# Altium footprint library Keebs.PcbLib: 219 footprints (part 7 of 14)
Each footprint in its own frame and in the unit in brackets; x right, y up, seen from the top. Pads: shape width x height; smd on the part's side, far side on the other; paste and mask are expansions set on the pad; w line width, h text height; cw(c..) or ccw(c..) is an arc to the next point about the centre after c.
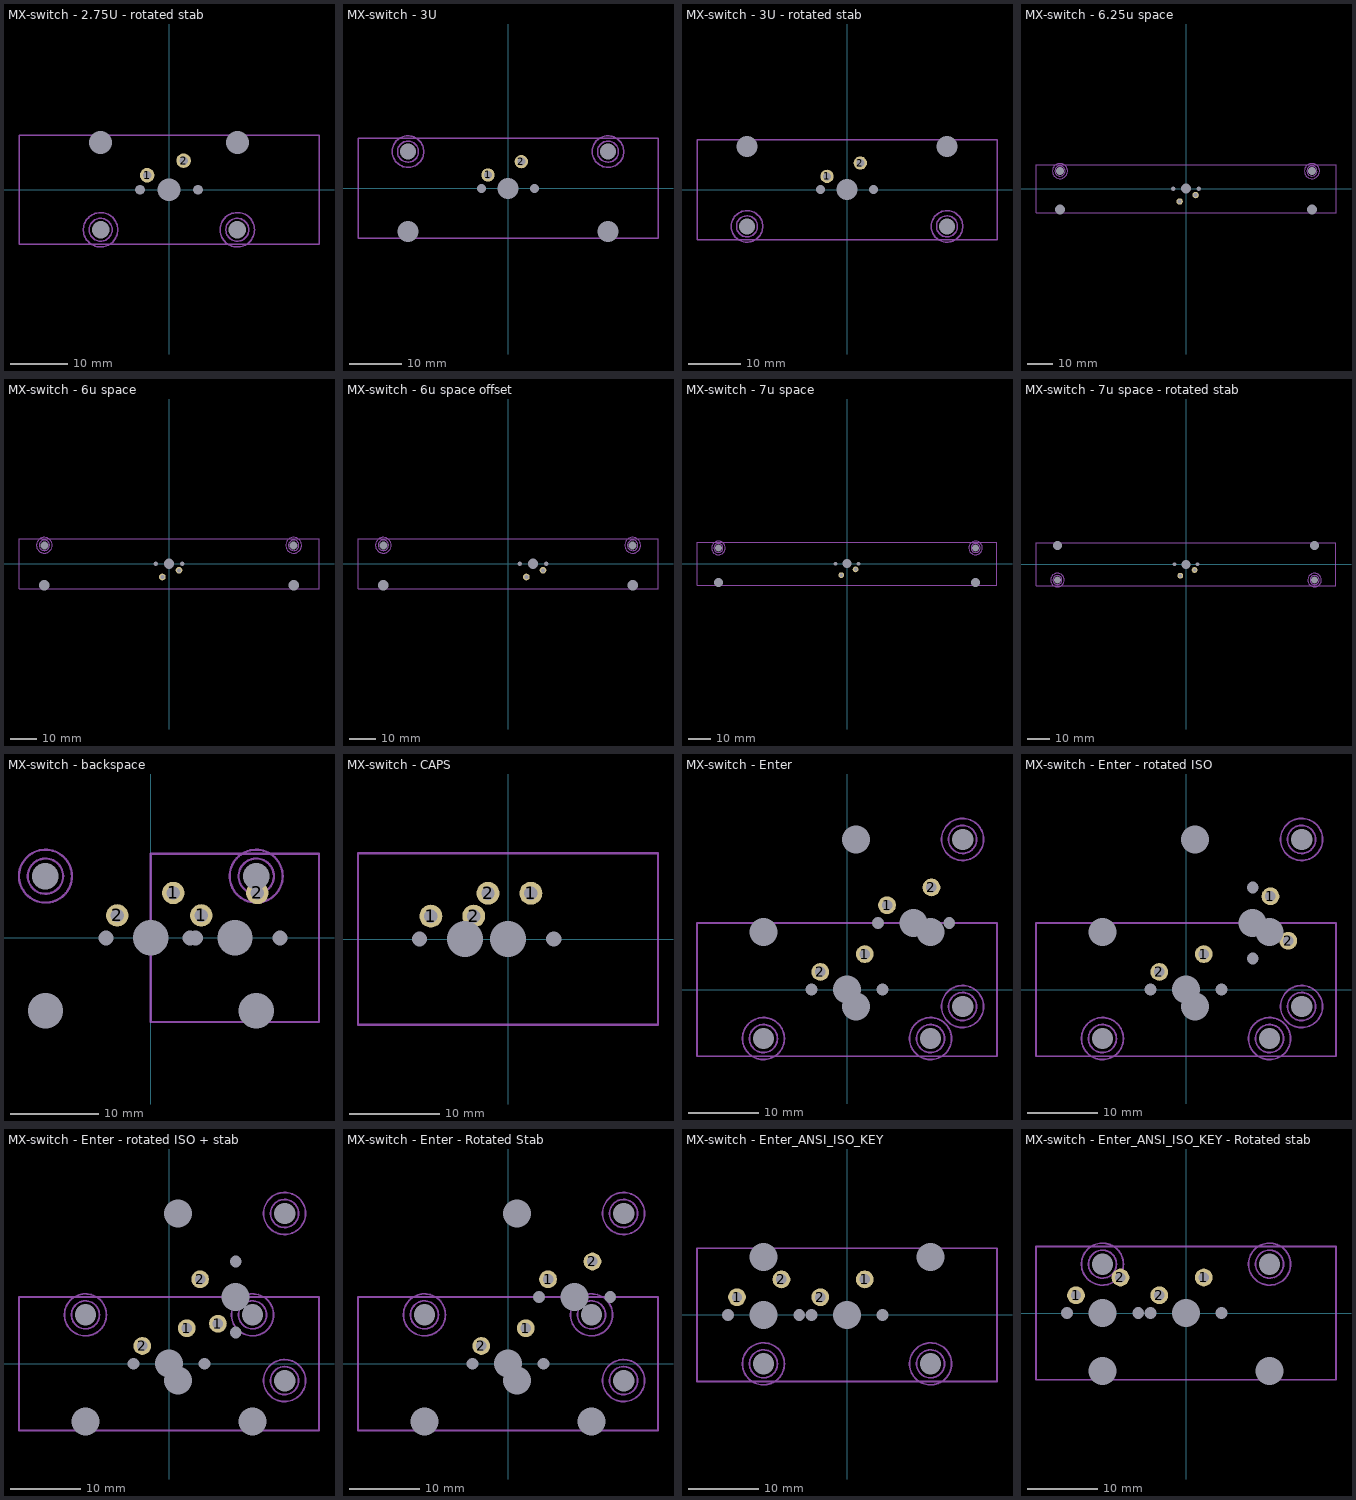
[diagram p6: the footprints below, top view; thin cyan lines are the x and y axes]

## MX-switch - 2.75U - rotated stab [mm]
pads (10):
  round 2.54 hole 1.5 mask-0.5: 1(-3.81,2.54) 2(2.54,5.08)
  round 1.524 hole 3.048 unplated: ""(-11.938,-6.985) ""(11.938,-6.985)
  round 1.524 hole 4 unplated: ""(-11.938,8.255) ""(11.938,8.255)
  round 1 hole 1.7 unplated: ""(-5.08,0) ""(5.08,0)
  round 1 on Mech13: ""(0,0)
  round 1 hole 4 unplated: ""(0,0)
Mechanical 13:
  lines w0.254: -26.194,-9.525 -26.194,9.525 26.194,9.525 26.194,-9.525 -26.194,-9.525
  text ".Designator" at -3.825,-3.375 h0.7
Mechanical 15:
  circle w0.254: c-11.938,-6.985 r2
  circle w0.254: c-11.938,-6.985 r3
  circle w0.254: c11.938,-6.985 r2
  circle w0.254: c11.938,-6.985 r3

## MX-switch - 3U [mm]
pads (10):
  round 2.54 hole 1.5 mask-0.5: 1(-3.81,2.54) 2(2.54,5.08)
  round 1.524 hole 4 unplated: ""(-19.05,-8.255) ""(19.05,-8.255)
  round 1.524 hole 3.048 unplated: ""(-19.05,6.985) ""(19.05,6.985)
  round 1 hole 1.7 unplated: ""(-5.08,0) ""(5.08,0)
  round 1 on Mech13: ""(0,0)
  round 1 hole 4 unplated: ""(0,0)
Mechanical 13:
  lines w0.254: -28.575,-9.525 28.575,-9.525 28.575,9.525 -28.575,9.525 -28.575,-9.525
  text ".Designator" at -3.825,-3.375 h0.7
Mechanical 15:
  circle w0.254: c-19.05,6.985 r3
  circle w0.254: c-19.05,6.985 r2
  circle w0.254: c19.05,6.985 r3
  circle w0.254: c19.05,6.985 r2

## MX-switch - 3U - rotated stab [mm]
pads (10):
  round 2.54 hole 1.5 mask-0.5: 1(-3.81,2.54) 2(2.54,5.08)
  round 1.524 hole 3.048 unplated: ""(-19.05,-6.985) ""(19.05,-6.985)
  round 1.524 hole 4 unplated: ""(-19.05,8.255) ""(19.05,8.255)
  round 1 hole 1.7 unplated: ""(-5.08,0) ""(5.08,0)
  round 1 on Mech13: ""(0,0)
  round 1 hole 4 unplated: ""(0,0)
Mechanical 13:
  lines w0.254: -28.575,-9.525 -28.575,9.525 28.575,9.525 28.575,-9.525 -28.575,-9.525
  text ".Designator" at -3.825,-3.375 h0.7
Mechanical 15:
  circle w0.254: c-19.05,-6.985 r2
  circle w0.254: c-19.05,-6.985 r3
  circle w0.254: c19.05,-6.985 r2
  circle w0.254: c19.05,-6.985 r3

## MX-switch - 6.25u space [mm]
pads (10):
  round 2.54 hole 1.5 mask-0.5: 1(3.81,-2.54) 2(-2.54,-5.08)
  round 1.524 hole 4 unplated: ""(-50,-8.255) ""(50,-8.255)
  round 1.524 hole 3.048 unplated: ""(-50,6.985) ""(50,6.985)
  round 1 hole 1.7 unplated: ""(-5.08,0) ""(5.08,0)
  round 1 hole 4 unplated: ""(0,0)
  round 1 on Mech13: ""(0,0)
Mechanical 13:
  lines w0.254: -59.531,-9.525 59.531,-9.525 59.531,9.525 -59.531,9.525 -59.531,-9.525
  text ".Designator" at -3.575,-3.7 h0.7
Mechanical 15:
  circle w0.254: c-50,6.985 r2
  circle w0.254: c-50,6.985 r3
  circle w0.254: c50,6.985 r2
  circle w0.254: c50,6.985 r3

## MX-switch - 6u space [mm]
pads (10):
  round 2.54 hole 1.499 mask-0.5: 1(3.81,-2.54) 2(-2.54,-5.08)
  round 1.524 hole 4 unplated: ""(-47.5,-8.255) ""(47.5,-8.255)
  round 1.524 hole 3.048 unplated: ""(-47.5,6.985) ""(47.5,6.985)
  round 1 hole 1.7 unplated: ""(-5.08,0) ""(5.08,0)
  round 1 hole 4 unplated: ""(0,0)
  round 1 on Mech13: ""(0,0)
Mechanical 13:
  lines w0.254: -57.15,-9.525 57.15,-9.525 57.15,9.525 -57.15,9.525 -57.15,-9.525
  text ".Designator" at -3.575,-3.7 h0.7
Mechanical 15:
  circle w0.254: c47.5,6.985 r3
  circle w0.254: c47.5,6.985 r2
  circle w0.254: c-47.5,6.985 r3
  circle w0.254: c-47.5,6.985 r2

## MX-switch - 6u space offset [mm]
pads (10):
  round 2.54 hole 1.5 mask-0.5: 1(13.335,-2.54) 2(6.985,-5.08)
  round 1.524 hole 4 unplated: ""(-47.5,-8.255) ""(47.5,-8.255)
  round 1.524 hole 3.048 unplated: ""(-47.5,6.985) ""(47.5,6.985)
  round 1 hole 1.7 unplated: ""(4.445,0) ""(14.605,0)
  round 1 hole 4 unplated: ""(9.525,0)
  round 1 on Mech13: ""(9.525,0)
Mechanical 13:
  lines w0.254: -57.15,-9.525 -57.15,9.525 57.15,9.525 57.15,-9.525 -57.15,-9.525
  text ".Designator" at -3.575,-3.7 h0.7
Mechanical 15:
  circle w0.254: c-47.5,6.985 r2
  circle w0.254: c-47.5,6.985 r3
  circle w0.254: c47.5,6.985 r2
  circle w0.254: c47.5,6.985 r3

## MX-switch - 7u space [mm]
pads (10):
  round 2.54 hole 1.5 mask-0.5: 1(3.81,-2.54) 2(-2.54,-5.08)
  round 1.524 hole 4 unplated: ""(-57.15,-8.255) ""(57.15,-8.255)
  round 1.524 hole 3.048 unplated: ""(-57.15,6.985) ""(57.15,6.985)
  round 1 hole 1.7 unplated: ""(-5.08,0) ""(5.08,0)
  round 1 hole 4 unplated: ""(0,0)
  round 1 on Mech13: ""(0,0)
Mechanical 13:
  lines w0.254: -66.675,-9.525 -66.675,9.525 66.675,9.525 66.675,-9.525 -66.675,-9.525
  text ".Designator" at -3.575,-3.7 h0.7
Mechanical 15:
  circle w0.254: c57.15,6.985 r3
  circle w0.254: c57.15,6.985 r2
  circle w0.254: c-57.15,6.985 r3
  circle w0.254: c-57.15,6.985 r2

## MX-switch - 7u space - rotated stab [mm]
pads (10):
  round 2.54 hole 1.5 mask-0.5: 1(3.81,-2.54) 2(-2.54,-5.08)
  round 1.524 hole 3.048 unplated: ""(-57.15,-6.985) ""(57.15,-6.985)
  round 1.524 hole 4 unplated: ""(-57.15,8.255) ""(57.15,8.255)
  round 1 hole 1.7 unplated: ""(-5.08,0) ""(5.08,0)
  round 1 hole 4 unplated: ""(0,0)
  round 1 on Mech13: ""(0,0)
Mechanical 13:
  lines w0.254: -66.675,-9.525 66.675,-9.525 66.675,9.525 -66.675,9.525 -66.675,-9.525
  text ".Designator" at -3.575,-3.7 h0.7
Mechanical 15:
  circle w0.254: c-57.15,-6.985 r2
  circle w0.254: c-57.15,-6.985 r3
  circle w0.254: c57.15,-6.985 r2
  circle w0.254: c57.15,-6.985 r3

## MX-switch - backspace [mm]
pads (16):
  round 2.54 hole 1.5 mask-0.5: 1(2.54,5.08) 1(5.715,2.54) 2(-3.81,2.54) 2(12.065,5.08)
  round 1.524 hole 4 unplated: ""(-11.938,-8.255) ""(11.938,-8.255)
  round 1.524 hole 3 unplated: ""(-11.938,6.985) ""(11.938,6.985)
  round 1 hole 1.7 unplated: ""(-5.08,0) ""(4.445,0) ""(5.08,0) ""(14.605,0)
  round 1 hole 4 unplated: ""(0,0) ""(9.525,0)
  round 1 on Mech13: ""(0,0) ""(9.525,0)
Mechanical 13:
  lines w0.254: 0,-9.525 0,9.525 19.05,9.525 19.05,-9.525 0,-9.525
  text ".Designator" at 6.65,3.75 h0.7
Mechanical 15:
  circle w0.254: c-11.938,6.985 r2
  circle w0.254: c-11.938,6.985 r3
  circle w0.254: c11.938,6.985 r2
  circle w0.254: c11.938,6.985 r3

## MX-switch - CAPS [mm]
pads (10):
  round 2.54 hole 1.5 mask-0.5: 1(-8.572,2.54) 1(2.54,5.08) 2(-3.81,2.54) 2(-2.222,5.08)
  round 1 hole 1.7 unplated: ""(-9.842,0) ""(5.08,0)
  round 1 on Mech13: ""(-4.763,0) ""(0,0)
  round 1 hole 4 unplated: ""(-4.763,0) ""(0,0)
Mechanical 13:
  lines w0.254: -16.669,-9.525 16.669,-9.525 ; -16.669,-9.525 16.669,-9.525 ; -16.669,-9.525 -16.669,9.525 16.669,9.525 16.669,-9.525
  text ".Designator" at -7.85,-7.5 h0.7

## MX-switch - Enter [mm]
pads (20):
  round 2.54 hole 1.5 mask-0.5: 1(2.54,5.08) 1(5.72,12.07) 2(-3.81,2.54) 2(12.07,14.61)
  round 1.524 hole 3.048 unplated: ""(-11.938,-6.985) ""(11.938,-6.985) ""(16.515,-2.408) ""(16.515,21.468)
  round 1.524 hole 4 unplated: ""(-11.938,8.255) ""(1.275,-2.408) ""(1.275,21.468) ""(11.938,8.255)
  round 1 hole 1.7 unplated: ""(-5.08,0) ""(4.45,9.53) ""(5.08,0) ""(14.61,9.53)
  round 1 hole 4 unplated: ""(0,0) ""(9.53,9.53)
  round 1 on Mech13: ""(0,0) ""(9.53,9.53)
Mechanical 13:
  lines w0.254: -21.431,-9.525 21.431,-9.525 21.431,9.525 -21.431,9.525 -21.431,-9.525
  text ".Designator" at 7.85,1.8 h0.7
Mechanical 15:
  circle w0.254: c-11.938,-6.985 r2
  circle w0.254: c-11.938,-6.985 r3
  circle w0.254: c11.938,-6.985 r2
  circle w0.254: c11.938,-6.985 r3
  circle w0.254: c16.515,-2.408 r2
  circle w0.254: c16.515,-2.408 r3
  circle w0.254: c16.515,21.468 r2
  circle w0.254: c16.515,21.468 r3

## MX-switch - Enter - rotated ISO [mm]
pads (20):
  round 2.54 hole 1.5 mask-0.5: 1(2.54,5.08) 1(12.07,13.34) 2(-3.81,2.54) 2(14.61,6.99)
  round 1.524 hole 3.048 unplated: ""(-11.938,-6.985) ""(11.938,-6.985) ""(16.515,-2.408) ""(16.515,21.468)
  round 1.524 hole 4 unplated: ""(-11.938,8.255) ""(1.275,-2.408) ""(1.275,21.468) ""(11.938,8.255)
  round 1 hole 1.7 unplated: ""(-5.08,0) ""(5.08,0) ""(9.53,4.45) ""(9.53,14.61)
  round 1 hole 4 unplated: ""(0,0) ""(9.53,9.53)
  round 1 on Mech13: ""(0,0) ""(9.53,9.53)
Mechanical 13:
  lines w0.254: -21.431,-9.525 21.431,-9.525 21.431,9.525 -21.431,9.525 -21.431,-9.525
  text ".Designator" at 7.85,1.8 h0.7
Mechanical 15:
  circle w0.254: c-11.938,-6.985 r2
  circle w0.254: c-11.938,-6.985 r3
  circle w0.254: c11.938,-6.985 r2
  circle w0.254: c11.938,-6.985 r3
  circle w0.254: c16.515,-2.408 r2
  circle w0.254: c16.515,-2.408 r3
  circle w0.254: c16.515,21.468 r2
  circle w0.254: c16.515,21.468 r3

## MX-switch - Enter - rotated ISO + stab [mm]
pads (20):
  round 2.54 hole 1.5 mask-0.5: 1(2.54,5.08) 1(6.99,5.72) 2(-3.81,2.54) 2(4.45,12.07)
  round 1.524 hole 4 unplated: ""(-11.938,-8.255) ""(1.275,-2.408) ""(1.275,21.468) ""(11.938,-8.255)
  round 1.524 hole 3.048 unplated: ""(-11.938,6.985) ""(11.938,6.985) ""(16.515,-2.408) ""(16.515,21.468)
  round 1 hole 1.7 unplated: ""(-5.08,0) ""(5.08,0) ""(9.53,4.45) ""(9.53,14.61)
  round 1 hole 4 unplated: ""(0,0) ""(9.53,9.53)
  round 1 on Mech13: ""(0,0) ""(9.53,9.53)
Mechanical 13:
  lines w0.254: -21.431,-9.525 21.431,-9.525 21.431,9.525 -21.431,9.525 -21.431,-9.525
  text ".Designator" at 7.85,1.8 h0.7
Mechanical 15:
  circle w0.254: c11.938,6.985 r2
  circle w0.254: c11.938,6.985 r3
  circle w0.254: c-11.938,6.985 r2
  circle w0.254: c-11.938,6.985 r3
  circle w0.254: c16.515,-2.408 r2
  circle w0.254: c16.515,-2.408 r3
  circle w0.254: c16.515,21.468 r2
  circle w0.254: c16.515,21.468 r3

## MX-switch - Enter - Rotated Stab [mm]
pads (20):
  round 2.54 hole 1.5 mask-0.5: 1(2.54,5.08) 1(5.72,12.07) 2(-3.81,2.54) 2(12.07,14.61)
  round 1.524 hole 4 unplated: ""(-11.938,-8.255) ""(1.275,-2.408) ""(1.275,21.468) ""(11.938,-8.255)
  round 1.524 hole 3.048 unplated: ""(-11.938,6.985) ""(11.938,6.985) ""(16.515,-2.408) ""(16.515,21.468)
  round 1 hole 1.7 unplated: ""(-5.08,0) ""(4.45,9.53) ""(5.08,0) ""(14.61,9.53)
  round 1 hole 4 unplated: ""(0,0) ""(9.53,9.53)
  round 1 on Mech13: ""(0,0) ""(9.53,9.53)
Mechanical 13:
  lines w0.254: -21.431,-9.525 -21.431,9.525 21.431,9.525 21.431,-9.525 -21.431,-9.525
  text ".Designator" at 7.85,1.8 h0.7
Mechanical 15:
  circle w0.254: c11.938,6.985 r3
  circle w0.254: c11.938,6.985 r2
  circle w0.254: c16.515,21.468 r3
  circle w0.254: c16.515,21.468 r2
  circle w0.254: c16.515,-2.408 r3
  circle w0.254: c16.515,-2.408 r2
  circle w0.254: c-11.938,6.985 r3
  circle w0.254: c-11.938,6.985 r2

## MX-switch - Enter_ANSI_ISO_KEY [mm]
pads (18):
  round 2.54 hole 1.5 mask-0.5: 1(-15.716,2.54) 1(2.54,5.08) 2(-9.366,5.08) 2(-3.81,2.54)
  round 1 hole 1.7 unplated: ""(-16.986,0) ""(-6.826,0) ""(-5.08,0) ""(5.08,0)
  round 1.524 hole 3.048 unplated: ""(-11.938,-6.985) ""(11.938,-6.985)
  round 1.524 hole 4 unplated: ""(-11.938,8.255) ""(11.938,8.255)
  round 1 hole 4 unplated: ""(-11.906,0) ""(0,0)
  round 1 on Mech13: ""(-11.906,0) ""(-11.906,0) ""(0,0) ""(0,0)
Mechanical 13:
  lines w0.254: -21.431,-9.525 -21.431,9.525 21.431,9.525 21.431,-9.525 -21.431,-9.525
  text ".Designator" at 7.85,1.8 h0.7
Mechanical 15:
  circle w0.254: c-11.938,-6.985 r2
  circle w0.254: c-11.938,-6.985 r3
  circle w0.254: c11.938,-6.985 r2
  circle w0.254: c11.938,-6.985 r3

## MX-switch - Enter_ANSI_ISO_KEY - Rotated stab [mm]
pads (18):
  round 2.54 hole 1.5 mask-0.5: 1(-15.716,2.54) 1(2.54,5.08) 2(-9.366,5.08) 2(-3.81,2.54)
  round 1 hole 1.7 unplated: ""(-16.986,0) ""(-6.826,0) ""(-5.08,0) ""(5.08,0)
  round 1.524 hole 4 unplated: ""(-11.938,-8.255) ""(11.938,-8.255)
  round 1.524 hole 3.048 unplated: ""(-11.938,6.985) ""(11.938,6.985)
  round 1 hole 4 unplated: ""(-11.906,0) ""(0,0)
  round 1 on Mech13: ""(-11.906,0) ""(-11.906,0) ""(0,0) ""(0,0)
Mechanical 13:
  lines w0.254: -21.431,-9.525 -21.431,9.525 21.431,9.525 21.431,-9.525 -21.431,-9.525
  text ".Designator" at 7.85,1.8 h0.7
Mechanical 15:
  circle w0.254: c11.938,6.985 r3
  circle w0.254: c11.938,6.985 r2
  circle w0.254: c-11.938,6.985 r3
  circle w0.254: c-11.938,6.985 r2